# EAGLE library part MCA1-42 (library minicircuits)
LTCC RF MIXER Level 7 (LO power +7 dBm 1000 to 4200 MHz) 1 dB compr: +1 dBm typ Maximum RF Power: 50 mW Maximum IF Current: 40 mA Operating temperature: -55°C to 100°C Storage temperature: -55°C to 100°C MCA1-42 LO Power Level 7 dBm Frequency MHz Max. Conversion Loss dB Min. LO-RF Isolation dB Min. LO-IF Isolation dB LO/RF IF Mid-Band Total Range L M U L M U 1000-4200 DC-1500 8.9 23 12 MCA1-42 Conversion Loss (dB) ISO Isolation L-R (dB) Isolation L-I (dB) RF MHz LO MHz LO +4 dBm LO +7 dBm LO +10 dBm LO (MHz) LO +4 dBm LO +7 dBm LO +10 dBm LO +4 dBm LO +7 dBm LO +10 dBm 1000.000 1030.000 7.65 7.06 6.61 1030.000 30.45 30.82 31.34 19.72 21.95 23.91 1050.000 1080.000 7.48 6.95 6.60 1080.000 31.29 31.84 32.51 20.23 22.56 24.57 1100.000 1130.000 7.07 6.73 6.47 1130.000 33.20 33.92 34.41 20.90 23.18 25.08 1150.000 1180.000 7.36 7.00 6.86 1180.000 35.84 36.31 36.56 21.18 23.24 25.03 1250.000 1280.000 6.90 6.82 6.50 1280.000 40.12 40.04 40.01 22.02 23.40 24.14 1300.000 1330.000 6.97 6.56 6.51 1330.000 41.57 41.27 40.80 22.27 23.15 23.40 1350.000 1380.000 6.59 6.49 6.55 1380.000 44.08 42.74 41.45 22.46 22.71 22.43 1400.000 1430.000 6.68 6.74 6.48 1430.000 45.00 43.15 41.52 22.42 22.28 21.79 1450.000 1480.000 6.68 6.69 6.60 1480.000 44.52 41.97 39.96 22.29 21.98 21.45 1500.000 1530.000 6.70 6.55 6.54 1530.000 42.67 40.58 38.51 22.23 21.81 21.30 1600.000 1630.000 7.06 6.65 6.63 1630.000 39.72 37.40 35.71 23.75 22.79 21.70 1700.000 1730.000 7.12 6.82 6.83 1730.000 35.97 34.24 32.96 23.12 22.29 21.62 1800.000 1830.000 7.33 7.09 6.83 1830.000 40.17 37.36 35.46 23.64 23.02 22.53 1900.000 1930.000 7.40 7.16 7.07 1930.000 40.03 39.01 38.26 24.41 24.51 24.52 2000.000 2030.000 7.69 7.37 7.26 2030.000 37.52 37.53 37.51 24.33 25.73 27.05 2100.000 2130.000 7.54 7.15 6.99 2130.000 38.98 38.01 37.29 22.46 23.66 24.59 2200.000 2230.000 7.32 6.89 6.70 2230.000 38.39 36.75 35.64 20.01 19.90 19.65 2300.000 2330.000 7.73 7.23 6.79 2330.000 38.71 36.32 34.51 18.54 17.58 16.80 2400.000 2430.000 7.13 6.71 6.39 2430.000 36.44 34.38 32.61 19.20 17.61 16.55 2500.000 2530.000 6.93 6.55 6.37 2530.000 35.79 33.12 30.87 21.14 19.16 17.80 2600.000 2630.000 7.64 6.76 6.38 2630.000 41.26 35.83 31.73 23.11 20.59 19.16 2700.000 2730.000 8.03 7.22 6.74 2730.000 44.71 38.56 35.10 24.39 21.86 20.45 2800.000 2830.000 7.40 6.85 6.33 2830.000 45.04 43.97 41.14 25.20 22.58 21.11 2900.000 2930.000 7.06 6.30 5.94 2930.000 43.57 45.43 47.79 26.38 23.71 22.21 3000.000 3030.000 6.55 5.73 5.47 3030.000 41.19 43.61 49.53 27.37 25.27 23.96 3100.000 3130.000 6.40 5.66 5.48 3130.000 42.04 42.98 42.44 27.27 25.76 25.03 3200.000 3230.000 6.11 5.55 5.58 3230.000 41.12 41.05 39.13 26.55 25.87 25.84 3300.000 3330.000 5.98 5.51 5.64 3330.000 36.32 35.56 34.96 25.85 25.90 26.33 3400.000 3430.000 6.15 5.65 5.63 3430.000 35.36 33.39 32.07 26.31 26.90 27.37 3500.000 3530.000 6.39 5.94 5.95 3530.000 34.21 32.16 30.75 26.12 27.12 27.75 3600.000 3630.000 6.83 6.44 6.14 3630.000 32.48 32.16 31.62 25.68 26.88 28.06 3700.000 3730.000 6.85 6.35 6.12 3730.000 32.15 31.11 30.05 23.42 25.04 26.75 3800.000 3830.000 7.25 6.65 6.39 3830.000 31.79 30.72 29.69 23.22 24.99 26.94 3850.000 3880.000 7.42 6.73 6.49 3880.000 32.29 30.94 29.69 23.42 25.33 27.23 3900.000 3930.000 7.38 6.69 6.60 3930.000 34.50 32.26 30.47 23.29 25.20 27.12 3950.000 3980.000 7.54 6.76 6.55 3980.000 34.21 34.88 32.87 22.48 24.52 26.24 4000.000 4030.000 7.97 7.14 6.84 4030.000 30.30 32.36 32.88 20.46 22.14 23.97 4100.000 4130.000 8.56 7.68 7.25 4130.000 30.05 31.18 32.02 18.26 19.40 21.09 4150.000 4180.000 8.48 7.66 7.19 4180.000 29.66 30.82 31.41 16.98 18.11 19.67 4200.000 4230.000 8.94 7.64 7.28 4230.000 30.07 31.30 32.12 16.82 17.53 18.76
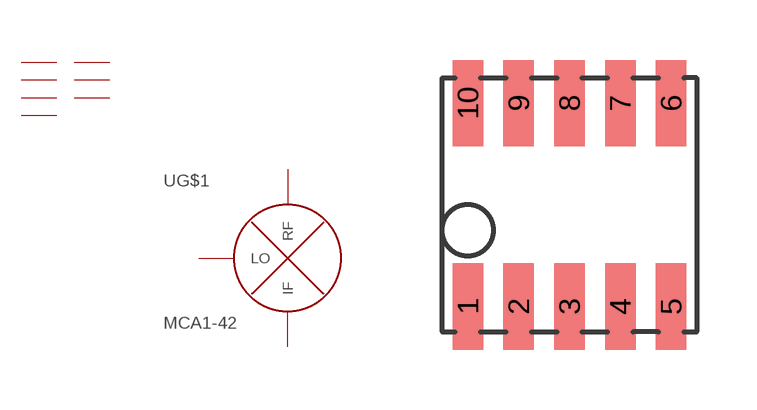
[diagram p21: symbol with the pads of DZ885; footprint DZ885]

Designator prefix -; gates G$1=RF-MIXER G$2=GND G$3=GND G$4=GND G$5=GND G$6=GND G$7=GND G$8=GND

## MCA1-42  [DZ885]
1  G$2:GND  pwr
2  G$3:GND  pwr
3  G$1:IF
4  G$4:GND  pwr
5  G$1:RF
6  G$5:GND  pwr
7  G$6:GND  pwr
8  G$7:GND  pwr
9  G$8:GND  pwr
10  G$1:LO

## Footprint DZ885 (pad centres in mm)
DZ885 http://www.minicircuits.com/cgi-bin/inquery.cgi?querystring=dz885&searchtype=case&x=20&y=14
smd 0.762 x 2.159: 1 0,1.27; 2 1.27,1.27; 3 2.54,1.27; 4 3.81,1.27; 5 5.08,1.27; 6 5.08,6.35; 7 3.81,6.35; 8 2.54,6.35; 9 1.27,6.35; 10 0,6.35